# Altium footprint library IO.PcbLib: 6 footprints
Each footprint in its own frame and in the unit in brackets; x right, y up, seen from the top. Pads: shape width x height; smd on the part's side, far side on the other; paste and mask are expansions set on the pad; w line width, h text height; cw(c..) or ccw(c..) is an arc to the next point about the centre after c.
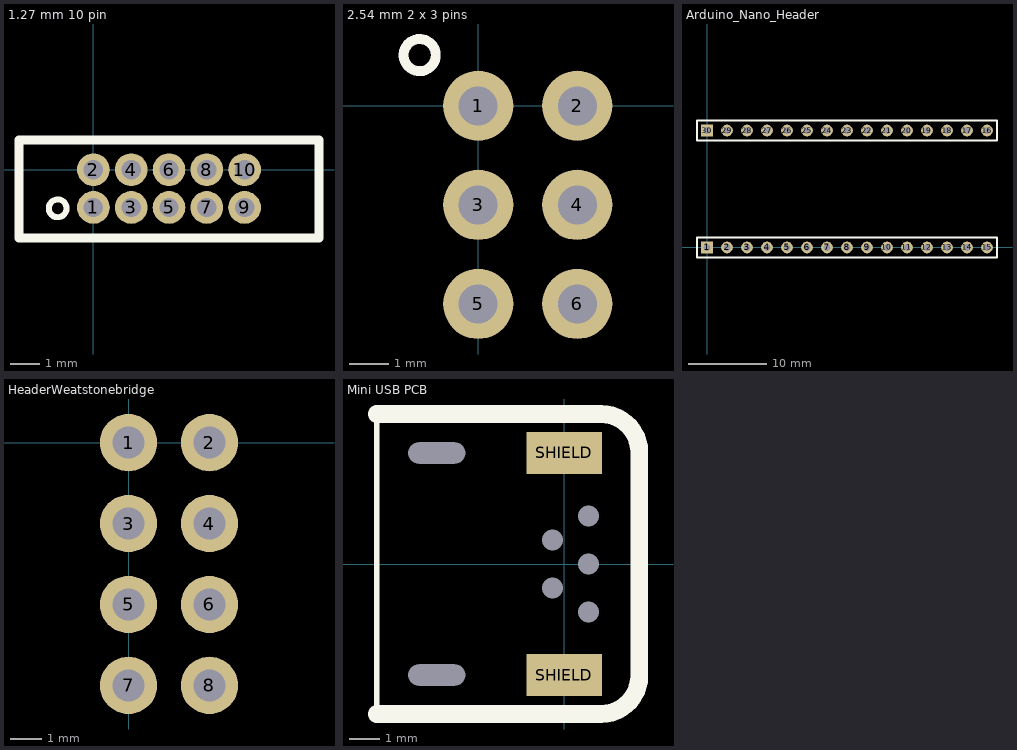
[diagram p0: the footprints below, top view; thin cyan lines are the x and y axes]

## 1.27 mm 10 pin [mm] "1.27 mm 10 pin"
pads (10):
  round 1.1 hole 0.65: 1(0,-1.27) 2(0,0) 3(1.27,-1.27) 4(1.27,0) 5(2.54,-1.27) 6(2.54,0) 7(3.81,-1.27) 8(3.81,0) 9(5.08,-1.27) 10(5.08,0)
Top Overlay:
  circle w0.2: c-1.2,-1.3 r0.3
  lines w0.3: -2.5,-2.3 -2.5,1 7.58,1 7.58,-2.3 -2.5,-2.3

## 2.54 mm 2 x 3 pins [mm]
pads (6):
  round 1.8 hole 1: 1(0,0) 2(2.54,0) 3(0,-2.54) 4(2.54,-2.54) 5(0,-5.08) 6(2.54,-5.08)
Top Overlay:
  circle w0.254: c-1.5,1.3 r0.412

## Arduino_Nano_Header [mm]
pads (30):
  rect 1.5x1.5 hole 0.9: 1(0,0) 30(0,14.85)
  round 1.5 hole 0.9: 2(2.54,0) 3(5.08,0) 4(7.62,0) 5(10.16,0) 6(12.7,0) 7(15.24,0) 8(17.78,0) 9(20.32,0) 10(22.86,0) 11(25.4,0) 12(27.94,0) 13(30.48,0) 14(33.02,0) 15(35.56,0) 16(35.56,14.85) 17(33.02,14.85) 18(30.48,14.85) 19(27.94,14.85) 20(25.4,14.85) 21(22.86,14.85) 22(20.32,14.85) 23(17.78,14.85) 24(15.24,14.85) 25(12.7,14.85) 26(10.16,14.85) 27(7.62,14.85) 28(5.08,14.85) 29(2.54,14.85)
Top Overlay:
  lines w0.2: -1.27,-1.27 36.83,-1.27 36.83,1.27 0.635,1.27 -1.27,1.27 -1.27,-1.27 ; -1.27,13.58 -1.27,16.12 0.635,16.12 36.83,16.12 36.83,13.58 -1.27,13.58

## DC Power conector jack [mm]

## HeaderWeatstonebridge [mm]
pads (8):
  round 1.8 hole 1: 1(0,0) 2(2.54,0) 3(0,-2.54) 4(2.54,-2.54) 5(0,-5.08) 6(2.54,-5.08) 7(0,-7.62) 8(2.54,-7.62)

## Mini USB PCB [mm]
pads (9):
  round 0 / inner oval 1.65x1.1 / far side oval 1.65x1.1 hole 0.7 copper offset 0.275,0: D+(0.8,0) GND(0.8,-1.6) VBUS(0.8,1.6)
  round 0 / inner oval 1.65x1.1 / far side oval 1.65x1.1 hole 0.7 copper offset -0.275,0: D-(-0.4,0.8) ID(-0.4,-0.8)
  rrect50% 0x0 / inner rrect50% 0x0 / far side rrect90% 2.7x1.7 hole 0.7 slot 1.9 at 0 deg: SHIELD(-4.25,-3.7)
  rrect50% 0x0 / inner rrect0% 0x0 / far side rrect90% 2.7x1.7 hole 0.7 slot 1.9 at 0 deg: SHIELD(-4.25,3.7)
  rect 2.5x1.4 smd: SHIELD(0,-3.7) SHIELD(0,3.7)
Top Overlay:
  lines w0.2: -6.25,-5 -6.25,5
  lines w0.6: -6.25,-5 1.23,-5 ccw(c1.23,-3.73) 2.5,-3.73 2.5,3.73 ccw(c1.23,3.73) 1.23,5 -6.25,5